# Altium schematic symbol library Adjustable power supply.SchLib: 14 symbols
Pins are listed as number, name and electrical type; pins without a type are passive.

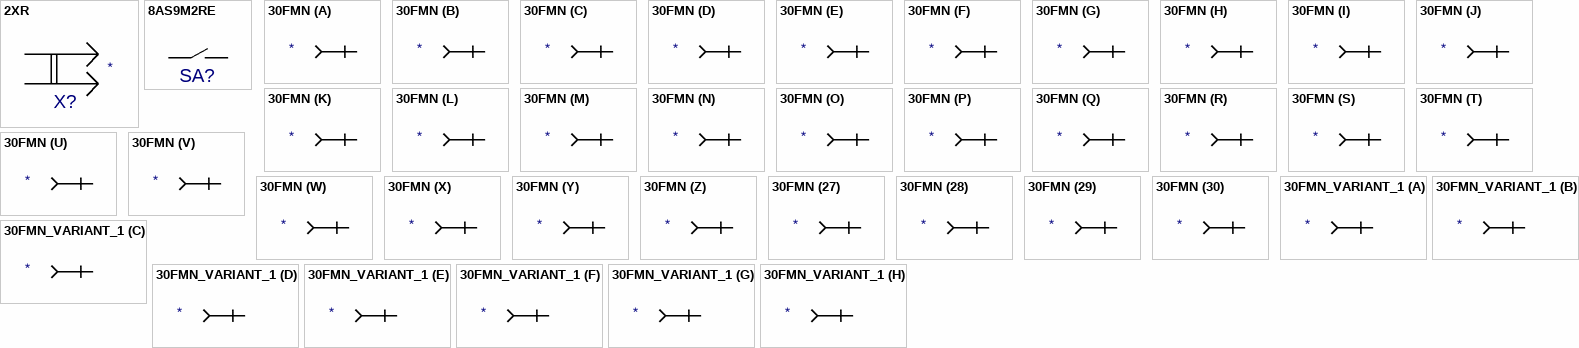
[diagram p0: symbols 2XR to 30FMN_VARIANT_1]

## 2XR
designator X?  (value not drawn)
Value: *
footprint 2XR
pins: 1 I/O1, 2 I/O2

## 8AS9M2RE
designator SA?  (value not drawn)
Value: *
footprint 8AS9M2RE
pins: 1, 2

## 30FMN
designator X?  (value not drawn)
Value: *
footprint 30FMN
part A pins: 1 i/o
part B pins: 2 i/o
part C pins: 3 i/o
part D pins: 4 i/o
part E pins: 5 i/o
part F pins: 6 i/o
part G pins: 7 i/o
part H pins: 8 i/o
part I pins: 9 i/o
part J pins: 10 i/o
part K pins: 11 i/o
part L pins: 12 i/o
part M pins: 13 i/o
part N pins: 14 i/o
part O pins: 15 i/o
part P pins: 16 i/o
part Q pins: 17 i/o
part R pins: 18 i/o
part S pins: 19 i/o
part T pins: 20 i/o
part U pins: 21 i/o
part V pins: 22 i/o
part W pins: 23 i/o
part X pins: 24 i/o
part Y pins: 25 i/o
part Z pins: 26 i/o
part 27 pins: 27 i/o
part 28 pins: 28 i/o
part 29 pins: 29 i/o
part 30 pins: 30 i/o

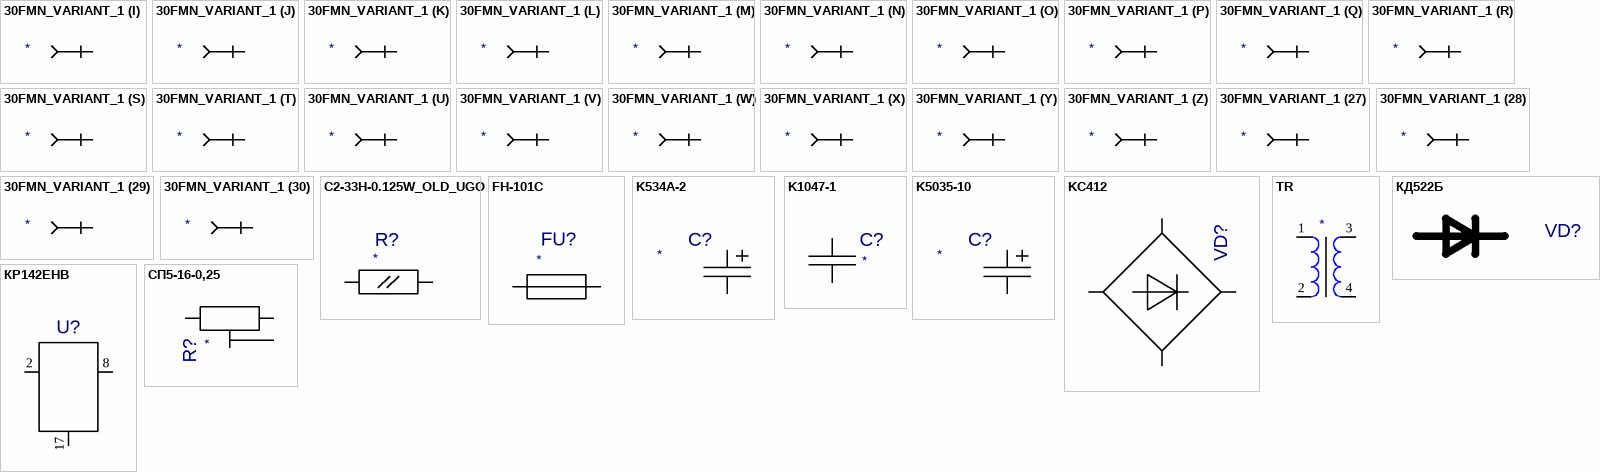
[diagram p1: symbols 30FMN_VARIANT_1 to СП5-16-0,25]

## 30FMN_VARIANT_1
designator X?, comment 30FMN  (value not drawn)
30FMN_VARIANT_1; Value: *
footprint 30FMN
part A pins: 1 i/o
part B pins: 2 i/o
part C pins: 3 i/o
part D pins: 4 i/o
part E pins: 5 i/o
part F pins: 6 i/o
part G pins: 7 i/o
part H pins: 8 i/o
part I pins: 9 i/o
part J pins: 10 i/o
part K pins: 11 i/o
part L pins: 12 i/o
part M pins: 13 i/o
part N pins: 14 i/o
part O pins: 15 i/o
part P pins: 16 i/o
part Q pins: 17 i/o
part R pins: 18 i/o
part S pins: 19 i/o
part T pins: 20 i/o
part U pins: 21 i/o
part V pins: 22 i/o
part W pins: 23 i/o
part X pins: 24 i/o
part Y pins: 25 i/o
part Z pins: 26 i/o
part 27 pins: 27 i/o
part 28 pins: 28 i/o
part 29 pins: 29 i/o
part 30 pins: 30 i/o

## C2-33H-0.125W_OLD_UGO
designator R?  (value not drawn)
Value: *
footprint C2-33H-0.125W
pins: 1, 2

## FH-101C
designator FU?  (value not drawn)
Value: *
footprint FH-101C
pins: 1, 2

## K534A-2
designator C?  (value not drawn)
Value: *
footprint K534A-2
pins: 1 I/OA, 2 I/OB

## K1047-1
designator C?  (value not drawn)
Value: *
footprint K1047-1
pins: 1 I/OA, 2 I/OB

## K5035-10
designator C?  (value not drawn)
Value: *
footprint K5035-3
pins: 1 I/OA, 2 I/OB

## KC412
designator VD?  (value not drawn)
Value: *
footprint KC412
pins: 1 I/O1, 2 I/O2, 3 I/O3, 4 I/O4

## TR
designator U?  (value not drawn)
Value: *
footprint T
pins: 1, 2, 3, 4

## КД522Б
designator VD?  (value not drawn)
Value: *
footprint КД521(522)
pins: 1 A, 2 K

## КР142ЕНB
designator U?  (value not drawn)
Value: *
footprint KR142EN
pins: 2 IN0, 8 OUT0, 17 GND

## СП5-16-0,25
designator R?  (value not drawn)
Value: *
footprint SP5-16-025
pins: 1, 2 3, 3 2